# EAGLE library part MCP41HV51 (library MCP41HV51)
8-Bit Single, +36V (±18V) Digital POT with SPI Serial Interface and Volatile Memory
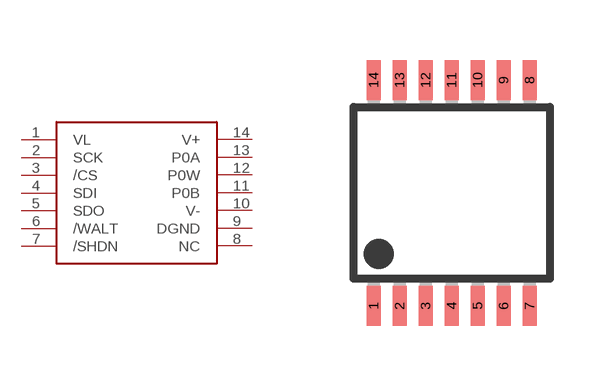
[diagram p0: symbol with the pads of TSSOP14; footprint TSSOP14]

Designator prefix -

## MCP41HV51  [TSSOP14]
1  VL  pwr
2  SCK
3  /CS
4  SDI
5  SDO
6  /WALT
7  /SHDN
8  NC  nc
9  DGND  pwr
10  V-  pwr
11  P0B
12  P0W
13  P0A
14  V+  pwr

## Footprint TSSOP14 (pad centres in mm)
14-Lead Plastic Thin Shrink Small Outline (ST) - 4.4 mm Body TSSOP Source: http://ww1.microchip.com/downloads/en/DeviceDoc/40039E.pdf
smd 0.35 x 1: 1 -1.95,-2.825; 2 -1.3,-2.825; 3 -0.65,-2.825; 4 0,-2.825; 5 0.65,-2.825; 6 1.3,-2.825; 7 1.95,-2.825; 8 1.95,2.825; 9 1.3,2.825; 10 0.65,2.825; 11 0,2.825; 12 -0.65,2.825; 13 -1.3,2.825; 14 -1.95,2.825